# Altium schematic symbol library MTSW-104-XX-X-S-XXX.SchLib: 1 symbol
Pins are listed as number, name and electrical type; pins without a type are passive.

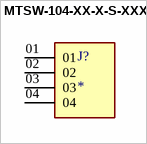
[diagram p0: symbol MTSW-104-XX-X-S-XXX]

## MTSW-104-XX-X-S-XXX
designator J?
MF: Samtec; MP: MTSW-104-12-F-S-850; SnapEDA_Link: https://www.snapeda.com/parts/MTSW-104-12-F-S-850/Samtec/view-part/6593359/?ref=snap; Value: *; Check_prices: https://www.snapeda.com/parts/MTSW-104-12-F-S-850/Samtec/view-part/6593359/?ref=eda; Price: None; Availability: No availability data; Package: None
footprint SAMTEC_MTSW-104-XX-X-S-XXX
pins: 01, 02, 03, 04